# Altium footprint library PDT_Relay.PcbLib: 9 footprints
Each footprint in its own frame and in the unit in brackets; x right, y up, seen from the top. Pads: shape width x height; smd on the part's side, far side on the other; paste and mask are expansions set on the pad; w line width, h text height; cw(c..) or ccw(c..) is an arc to the next point about the centre after c.
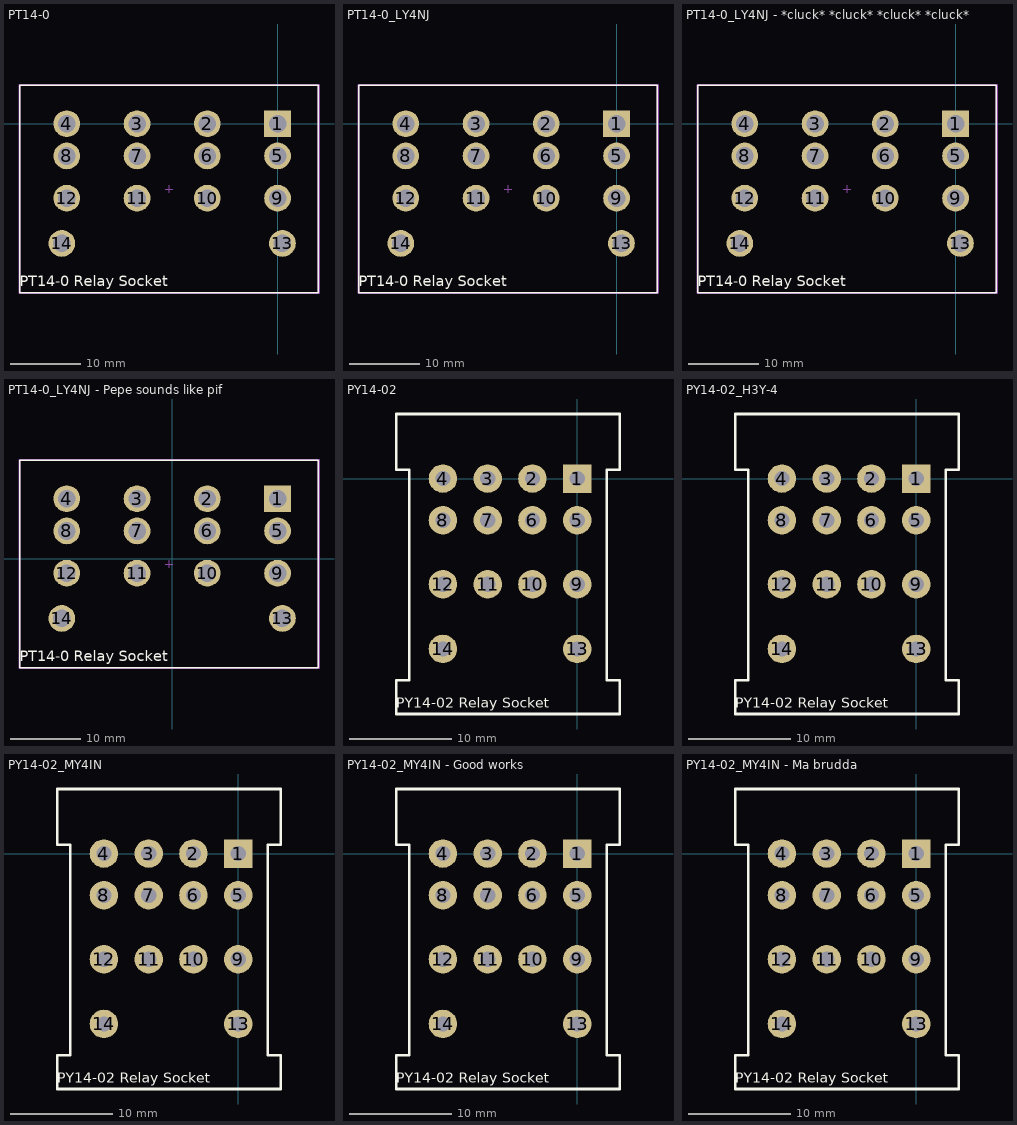
[diagram p0: the footprints below, top view; thin cyan lines are the x and y axes]

## PT14-0 [mm]
height 17.5
pads (14):
  rect 3.8x3.8 hole 2.5 paste-1000 mask+0: 1(0,0)
  round 3.8 hole 2.5 paste-1000 mask+0: 2(-10,0) 3(-20,0) 4(-30,0) 5(0,-4.6) 6(-10,-4.6) 7(-20,-4.6) 8(-30,-4.6) 9(0,-10.6) 10(-10,-10.6) 11(-20,-10.6) 12(-30,-10.6) 13(0.7,-17.05) 14(-30.7,-17.05)
Top Overlay:
  lines w0.2: -36.7,-24.05 5.8,-24.05 5.8,5.45 -36.7,5.45 -36.7,-24.05
  text "PT14-0 Relay Socket" at -36.725,-23.16 h1.52
Mechanical 10:
  lines w0.2: -36.8,-24.15 5.9,-24.15 5.9,5.55 -36.8,5.55 -36.8,-24.15
Mechanical 12:
  lines w0.2: -36.7,-24.05 5.8,-24.05 5.8,5.45 -36.7,5.45 -36.7,-24.05
Mechanical 15:
  lines w0.1: -15.95,-9.3 -14.95,-9.3 ; -15.45,-9.8 -15.45,-8.8
  lines w0.2: -36.8,-24.15 5.9,-24.15 5.9,5.55 -36.8,5.55 -36.8,-24.15
3D body "Conn_Omron_PT14-0_eec.STEP": height 14.7, standoff -2.8, extent -36.678,-23.797 5.822,5.103

## PT14-0_LY4NJ [mm]
height 53.5
pads (14):
  rect 3.8x3.8 hole 2.5 paste-1000 mask+0: 1(0,0)
  round 3.8 hole 2.5 paste-1000 mask+0: 2(-10,0) 3(-20,0) 4(-30,0) 5(0,-4.6) 6(-10,-4.6) 7(-20,-4.6) 8(-30,-4.6) 9(0,-10.6) 10(-10,-10.6) 11(-20,-10.6) 12(-30,-10.6) 13(0.7,-17.05) 14(-30.7,-17.05)
Top Overlay:
  lines w0.2: -36.7,-24.05 5.8,-24.05 5.8,5.45 -36.7,5.45 -36.7,-24.05
  text "PT14-0 Relay Socket" at -36.725,-23.16 h1.52
Mechanical 10:
  lines w0.2: -36.8,-24.15 5.9,-24.15 5.9,5.55 -36.8,5.55 -36.8,-24.15
Mechanical 12:
  lines w0.2: -36.7,-24.05 5.8,-24.05 5.8,5.45 -36.7,5.45 -36.7,-24.05
Mechanical 15:
  lines w0.1: -15.95,-9.3 -14.95,-9.3 ; -15.45,-9.8 -15.45,-8.8
  lines w0.2: -36.8,-24.15 5.9,-24.15 5.9,5.55 -36.8,5.55 -36.8,-24.15
3D body "LY4N.x_t": height 51.97, standoff 9.58, extent -36.175,-23.5 5.325,4.5
3D body "Conn_Omron_PT14-0_eec.STEP": height 14.7, standoff -2.8, extent -36.678,-23.797 5.822,5.103

## PT14-0_LY4NJ - *cluck* *cluck* *cluck* *cluck* [mm]
height 53.5
pads (14):
  rect 3.8x3.8 hole 2.5 paste-1000 mask+0: 1(0,0)
  round 3.8 hole 2.5 paste-1000 mask+0: 2(-10,0) 3(-20,0) 4(-30,0) 5(0,-4.6) 6(-10,-4.6) 7(-20,-4.6) 8(-30,-4.6) 9(0,-10.6) 10(-10,-10.6) 11(-20,-10.6) 12(-30,-10.6) 13(0.7,-17.05) 14(-30.7,-17.05)
Top Overlay:
  lines w0.2: -36.7,-24.05 5.8,-24.05 5.8,5.45 -36.7,5.45 -36.7,-24.05
  text "PT14-0 Relay Socket" at -36.725,-23.16 h1.52
Mechanical 10:
  lines w0.2: -36.8,-24.15 5.9,-24.15 5.9,5.55 -36.8,5.55 -36.8,-24.15
Mechanical 12:
  lines w0.2: -36.7,-24.05 5.8,-24.05 5.8,5.45 -36.7,5.45 -36.7,-24.05
Mechanical 15:
  lines w0.1: -15.95,-9.3 -14.95,-9.3 ; -15.45,-9.8 -15.45,-8.8
  lines w0.2: -36.8,-24.15 5.9,-24.15 5.9,5.55 -36.8,5.55 -36.8,-24.15
3D body "wea.x_t": height 37.44, standoff 17.17, extent -29.063,-11.824 -1.787,-7.176
3D body "LY4N.x_t": height 51.97, standoff 9.58, extent -36.175,-23.5 5.325,4.5
3D body "Conn_Omron_PT14-0_eec.STEP": height 14.7, standoff -2.8, extent -36.678,-23.797 5.822,5.103

## PT14-0_LY4NJ - Pepe sounds like pif [mm]
height 53.5
pads (14):
  rect 3.8x3.8 hole 2.5 paste-1000 mask+0: 1(15,8.525)
  round 3.8 hole 2.5 paste-1000 mask+0: 2(5,8.525) 3(-5,8.525) 4(-15,8.525) 5(15,3.925) 6(5,3.925) 7(-5,3.925) 8(-15,3.925) 9(15,-2.075) 10(5,-2.075) 11(-5,-2.075) 12(-15,-2.075) 13(15.7,-8.525) 14(-15.7,-8.525)
Top Overlay:
  lines w0.2: -21.7,-15.525 20.8,-15.525 20.8,13.975 -21.7,13.975 -21.7,-15.525
  text "PT14-0 Relay Socket" at -21.725,-14.635 h1.52
Mechanical 10:
  lines w0.2: -21.8,-15.625 20.9,-15.625 20.9,14.075 -21.8,14.075 -21.8,-15.625
Mechanical 12:
  lines w0.2: -21.7,-15.525 20.8,-15.525 20.8,13.975 -21.7,13.975 -21.7,-15.525
Mechanical 15:
  lines w0.1: -0.95,-0.775 0.05,-0.775 ; -0.45,-1.275 -0.45,-0.275
  lines w0.2: -21.8,-15.625 20.9,-15.625 20.9,14.075 -21.8,14.075 -21.8,-15.625
3D body "Feels-good-man.x_t": height 44.63, standoff 24.76, extent -10.364,-1.275 9.514,-0.675
3D body "Conn_Omron_PT14-0_eec.STEP": height 14.7, standoff -2.8, extent -21.678,-15.272 20.822,13.628
3D body "LY4N.x_t": height 51.97, standoff 9.58, extent -21.175,-14.975 20.325,13.025

## PY14-02 [mm]
height 16
pads (14):
  rect 2.8x2.8 hole 1.5: 1(0,0)
  round 2.8 hole 1.5: 2(-4.4,0) 3(-8.8,0) 4(-13.2,0) 5(0,-4.1) 6(-4.4,-4.1) 7(-8.8,-4.1) 8(-13.2,-4.1) 9(0,-10.4) 10(-4.4,-10.4) 11(-8.8,-10.4) 12(-13.2,-10.4) 13(0,-16.75) 14(-13.2,-16.75)
Top Overlay:
  lines w0.254: -17.8,-23.15 -17.8,-19.85 -16.5,-19.85 -16.5,0.85 -17.8,0.85 -17.8,6.35 4.2,6.35 4.2,0.85 2.9,0.85 2.9,-19.85 4.2,-19.85 4.2,-23.15 -17.8,-23.15
  text "PY14-02 Relay Socket" at -17.8,-22.555 h1
3D body "PY14_02_BASE-1.stp": height 12.7, standoff -3.8, extent -17.8,-23.15 4.2,6.35

## PY14-02_H3Y-4 [mm]
height 72.6
pads (14):
  rect 2.8x2.8 hole 1.5: 1(0,0)
  round 2.8 hole 1.5: 2(-4.4,0) 3(-8.8,0) 4(-13.2,0) 5(0,-4.1) 6(-4.4,-4.1) 7(-8.8,-4.1) 8(-13.2,-4.1) 9(0,-10.4) 10(-4.4,-10.4) 11(-8.8,-10.4) 12(-13.2,-10.4) 13(0,-16.75) 14(-13.2,-16.75)
Top Overlay:
  lines w0.254: -17.8,-23.15 -17.8,-19.85 -16.5,-19.85 -16.5,0.85 -17.8,0.85 -17.8,6.35 4.2,6.35 4.2,0.85 2.9,0.85 2.9,-19.85 4.2,-19.85 4.2,-23.15 -17.8,-23.15
  text "PY14-02 Relay Socket" at -17.8,-22.555 h1
3D body "H3Y_4.step": height 68.57, standoff 5.58, extent -17.55,-22.65 3.95,5.35
3D body "PY14_02_BASE-1.stp": height 12.7, standoff -3.8, extent -17.8,-23.15 4.2,6.35

## PY14-02_MY4IN [mm]
height 52
pads (14):
  rect 2.8x2.8 hole 1.5: 1(0,0)
  round 2.8 hole 1.5: 2(-4.4,0) 3(-8.8,0) 4(-13.2,0) 5(0,-4.1) 6(-4.4,-4.1) 7(-8.8,-4.1) 8(-13.2,-4.1) 9(0,-10.4) 10(-4.4,-10.4) 11(-8.8,-10.4) 12(-13.2,-10.4) 13(0,-16.75) 14(-13.2,-16.75)
Top Overlay:
  lines w0.254: -17.8,-23.15 -17.8,-19.85 -16.5,-19.85 -16.5,0.85 -17.8,0.85 -17.8,6.35 4.2,6.35 4.2,0.85 2.9,0.85 2.9,-19.85 4.2,-19.85 4.2,-23.15 -17.8,-23.15
  text "PY14-02 Relay Socket" at -17.8,-22.555 h1
3D body "MY4IN_GS_DC.step": height 49.37, standoff 7.02, extent -17.55,-22.65 3.95,5.35
3D body "PY14_02_BASE-1.stp": height 12.7, standoff -3.8, extent -17.8,-23.15 4.2,6.35

## PY14-02_MY4IN - Good works [mm]
height 52
pads (14):
  rect 2.8x2.8 hole 1.5: 1(0,0)
  round 2.8 hole 1.5: 2(-4.4,0) 3(-8.8,0) 4(-13.2,0) 5(0,-4.1) 6(-4.4,-4.1) 7(-8.8,-4.1) 8(-13.2,-4.1) 9(0,-10.4) 10(-4.4,-10.4) 11(-8.8,-10.4) 12(-13.2,-10.4) 13(0,-16.75) 14(-13.2,-16.75)
Top Overlay:
  lines w0.254: -17.8,-23.15 4.2,-23.15 4.2,-19.85 2.9,-19.85 2.9,0.85 4.2,0.85 4.2,6.35 -17.8,6.35 -17.8,0.85 -16.5,0.85 -16.5,-19.85 -17.8,-19.85 -17.8,-23.15
  text "PY14-02 Relay Socket" at -17.8,-22.555 h1
3D body "PY14_02_BASE-1.stp": height 12.7, standoff -3.8, extent -17.8,-23.15 4.2,6.35
3D body "MY4IN_GS_DC.step": height 49.37, standoff 7.02, extent -17.55,-22.65 3.95,5.35
3D body "Feels-good-man.x_t": height 40.63, standoff 20.76, extent -7.1,-18.589 -6.5,1.289

## PY14-02_MY4IN - Ma brudda [mm]
height 52
pads (14):
  rect 2.8x2.8 hole 1.5: 1(0,0)
  round 2.8 hole 1.5: 2(-4.4,0) 3(-8.8,0) 4(-13.2,0) 5(0,-4.1) 6(-4.4,-4.1) 7(-8.8,-4.1) 8(-13.2,-4.1) 9(0,-10.4) 10(-4.4,-10.4) 11(-8.8,-10.4) 12(-13.2,-10.4) 13(0,-16.75) 14(-13.2,-16.75)
Top Overlay:
  lines w0.254: -17.8,-23.15 4.2,-23.15 4.2,-19.85 2.9,-19.85 2.9,0.85 4.2,0.85 4.2,6.35 -17.8,6.35 -17.8,0.85 -16.5,0.85 -16.5,-19.85 -17.8,-19.85 -17.8,-23.15
  text "PY14-02 Relay Socket" at -17.8,-22.555 h1
3D body "PY14_02_BASE-1.stp": height 12.7, standoff -3.8, extent -17.8,-23.15 4.2,6.35
3D body "MY4IN_GS_DC.step": height 49.37, standoff 7.02, extent -17.55,-22.65 3.95,5.35
3D body "wea.x_t": height 36.47, standoff 16.19, extent -9.124,-22.288 -4.476,4.988